# EAGLE library part FOOTPRINT_MG5003 (library psas_eagle_library)
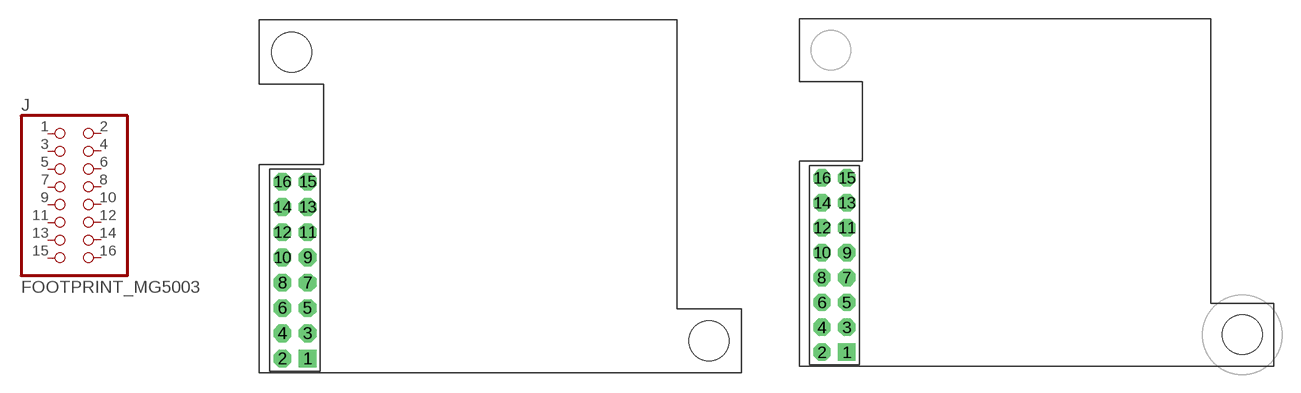
[diagram p38: symbol with the pads of MG5003-FOOTPRINT; footprints MG5003-FOOTPRINT, MG5003-FOOTPRINT-ONE_HOLE]

Designator prefix J

## FOOTPRINT_MG5003  [MG5003-FOOTPRINT]
1  1  pas
2  2  pas
3  3  pas
4  4  pas
5  5  pas
6  6  pas
7  7  pas
8  8  pas
9  9  pas
10  10  pas
11  11  pas
12  12  pas
13  13  pas
14  14  pas
15  15  pas
16  16  pas

## FOOTPRINT_MG5003-1HOLE  [MG5003-FOOTPRINT-ONE_HOLE]
Pads as for MG5003-FOOTPRINT

## Footprint MG5003-FOOTPRINT (pad centres in mm)
drill 0.889 pad 1.372 square: 1 1,-7
drill 0.889 pad 1.372 octagon: 2 -1,-7; 3 1,-5; 4 -1,-5; 5 1,-3; 6 -1,-3; 7 1,-1; 8 -1,-1; 9 1,1; 10 -1,1; 11 1,3; 12 -1,3; 13 1,5; 14 -1,5; 15 1,7; 16 -1,7
hole 3.175 at 32.75,-5.603
hole 3.175 at -0.27,17.257

## Footprint MG5003-FOOTPRINT-ONE_HOLE (pad centres in mm)
drill 0.889 pad 1.372 square: 1 1,-7
drill 0.889 pad 1.372 octagon: 2 -1,-7; 3 1,-5; 4 -1,-5; 5 1,-3; 6 -1,-3; 7 1,-1; 8 -1,-1; 9 1,1; 10 -1,1; 11 1,3; 12 -1,3; 13 1,5; 14 -1,5; 15 1,7; 16 -1,7
hole 3.175 at 32.75,-5.603